# Altium schematic symbol library Edge_logic_analyzer.SchLib: 73 symbols (part 2 of 2)
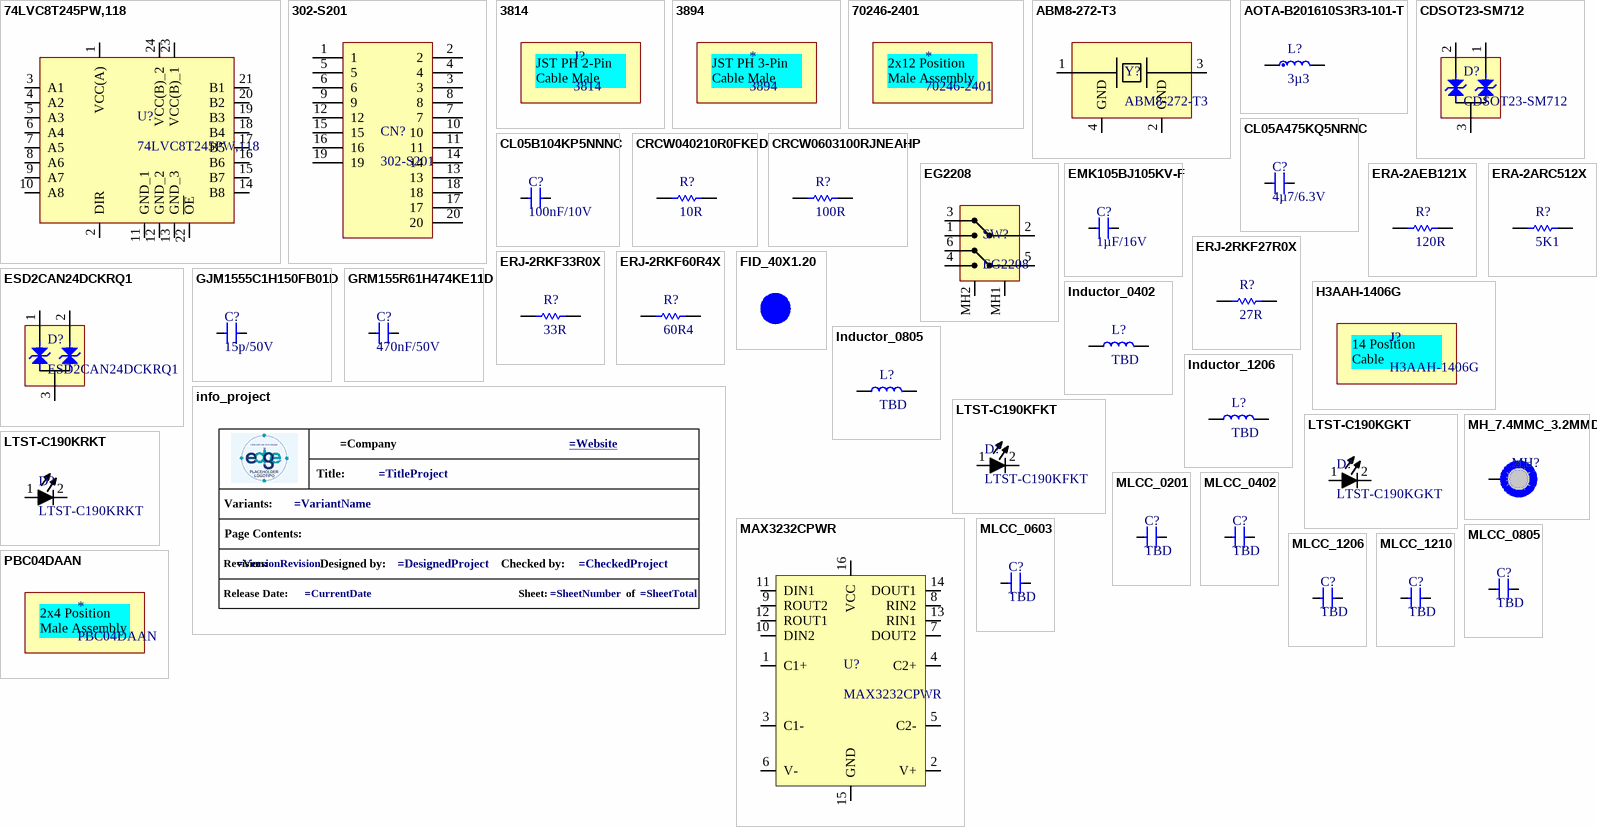
[diagram p2: symbols 74LVC8T245PW,118 to PBC04DAAN]

## MAX3232CPWR
designator U?
IC - Transceiver Full-Duplex RS232 2-Channel, Data Rate 250kbps 16-TSSOP.; Manufacturer 1: Texas Instruments; Number of Receivers: 2; Logic Function: Transceiver,Receiver; Number of Transceivers: 1; Simplex/Duplex: Full Duplex; Receiver Hysteresis: 300mV; Supply Current: 1mA; Max Supply Voltage: 5.5V; Min Supply Voltage: 3V; Operating Supply Voltage: 5V; Supply Type: Single; Description 1: 3- to 5.5-V dual channel 250kbps RS-232 line driver/receiver with +/-15-kV ESD protection 16-TSSOP 0 to 70; Category 1: RS-232 / RS-422 / RS-485 Interface ICs; .Mounting: SMT; Mounting Technology: Surface Mount; Case/Package: TSSOP; Pins: 16; Weight: 0.002183oz; Min Operating Temperature: -40°C; Max Operating Temperature: 85°C; Package Quantity: 2000; Packaging: Tape and Reel; Data Rate: 250Kbps; Number of Transmitters: 2; Number of Drivers: 2; Series: -; Number of Channels: 2; Operating Supply Current: 1mA; Termination: SMD/SMT; Length: 5mm; Width: 4.4mm; Height: 1mm; Radiation Hardening: No; Lead Free: Lead Free; RoHS Compliant: Yes; Reach SVHC Compliant: No; ComponentLink1URL: https://datasheet.ciiva.com/22694/1823586-22694378.pdf?src-supplier=Element14; ComponentLink1Description: https://datasheet.ciiva.com/22694/1823586-22694378.pdf?src-supplier=Element14; ComponentLink2URL: https://datasheet.ciiva.com/8064/1823586-8064567.pdf?src-supplier=Element14; ComponentLink2Description: https://datasheet.ciiva.com/8064/1823586-8064567.pdf?src-supplier=Element14; ComponentLink3URL: https://datasheet.ciiva.com/46394/1882754-46394522.pdf?src-supplier=Element14; ComponentLink3Description: https://datasheet.ciiva.com/46394/1882754-46394522.pdf?src-supplier=Element14; ComponentLink4URL: https://datasheet.ciiva.com/46397/1882754-46397997.pdf?src-supplier=Element14; ComponentLink4Description: https://datasheet.ciiva.com/46397/1882754-46397997.pdf?src-supplier=Element14; ComponentLink5URL: https://datasheet.ciiva.com/1702/max3232-1702785.pdf?src-supplier=Digi-Key; ComponentLink5Description: https://datasheet.ciiva.com/1702/max3232-1702785.pdf?src-supplier=Digi-Key; ComponentLink6URL: https://datasheet.ciiva.com/1702/max3232-1702784.pdf?src-supplier=Digi-Key; ComponentLink6Description: https://datasheet.ciiva.com/1702/max3232-1702784.pdf?src-supplier=Digi-Key; ComponentLink7URL: https://datasheet.ciiva.com/1702/max3232-1702786.pdf?src-supplier=Digi-Key; ComponentLink7Description: https://datasheet.ciiva.com/1702/max3232-1702786.pdf?src-supplier=Digi-Key; Manufacturer Part Number 1: MAX3232CPWR; RoHS 1: Yes; Stock 1: 15299; Pricing 1: 1=0,99, 10=0,849, 50=0,849, 100=0,652, 1000=0,454, 10000=0,387 (USD); Manufacturer 2: Texas Instruments; Manufacturer Part Number 2: MAX3232IPWR; Manufacturer 3: Texas Instruments; Manufacturer Part Number 3: MAX3232ECPWR; .PCBChecked: *; .SCHChecked: *; Supplier 1: Digikey; Supplier Part Number 1: 296-13096-1-ND
footprint MAX3232CPWR (TSOP, 16-Leads, Body 5,00x4,40mm, Pitch 0,65mm, IPC Medium Density)
pins: 1 C1+, 2 V+, 3 C1-, 4 C2+, 5 C2-, 6 V-, 7 DOUT2, 8 RIN2, 9 ROUT2, 10 DIN2, 11 DIN1, 12 ROUT1, 13 RIN1, 14 DOUT1, 15 GND, 16 VCC

## MH_7.4MMC_3.2MMD
designator MH?  (value not drawn)  (no BOM)
Mounting Hole 7.4mm Diameter 3.2mm Drill
footprint MH_7.4MMC_3.2MMD
pins: 1

## MLCC_0201
designator C?, comment TBD
MLCC - TBD 0201
footprint C0201
pins: 1, 2

## MLCC_0402
designator C?, comment TBD
MLCC - TBD 0402
footprint C0402
pins: 1, 2

## MLCC_0603
designator C?, comment TBD
MLCC - TBD 0603
footprint C0603
pins: 1, 2

## MLCC_0805
designator C?, comment TBD
MLCC - TBD 0805
footprint C0805
pins: 1, 2

## MLCC_1206
designator C?, comment TBD
MLCC - TBD 1206
footprint C1206 (Chip Capacitor, 2-Leads, Body 3.20x1.60mm, IPC Medium Density)
pins: 1, 2

## MLCC_1210
designator C?, comment TBD
MLCC - TBD 1210
footprint C1210
pins: 1, 2

## PBC04DAAN
designator *  (mechanical)
ASSEMBLY - Conn Unshrouded Header HDR 8 POS 2.54mm Solder ST Top Entry Thru-Hole; Manufacturer 1: Sullins; Connector Type: Male Pin; Contact Resistance: 30mΩ; Current Rating: 3A; Gender: Male; Insulation Resistance: 5GΩ; Number of Contacts: 8; Plating Thickness: 254nm; Supplier: DigiKey; Supplier Part Number: S2011E-04-ND; Manufacturer Part Number 1: PBC04DAAN; RoHS: Compliant; Category: Headers and Wire Housings; Stock: 15250; Pricing: 1=0,69, 10=0,583, 100=0,4955, 500=0,4422, 1000=0,42108, 5000=0,37588, 10000=0,36514 (USD); Color: Black; Contact Gender: Male; Contact Material: Gold, Nickel; Contact Mating Length: 5.842mm; Contact Plating: Gold; Height: 8.71mm; Housing Color: Black; Housing Material: Plastic; Lead Free: Lead Free; Length: 10.2mm; Lifecycle Status: Production; Max Operating Temperature: 125°C; Min Operating Temperature: -65°C; Mounting Technology: Through Hole; Pins: 8; Number of Positions: 8; Number of Rows: 2; Packaging: Bulk; Pitch: 2.54mm; REACH SVHC: Yes; Row Spacing: 2.54mm; Terminal Pitch: 2.54mm; Termination: Solder; Width: 5.08mm; ComponentLink1URL: https://datasheet.octopart.com:443/PBC04DAAN-Sullins-datasheet-137916713.pdf?src-supplier=IHS; ComponentLink1Description: https://datasheet.octopart.com:443/PBC04DAAN-Sullins-datasheet-137916713.pdf?src-supplier=IHS; ComponentLink2URL: https://datasheet.octopart.com:443/PBC04DAAN-Sullins-datasheet-102002651.pdf?src-supplier=Upverter; ComponentLink2Description: https://datasheet.octopart.com:443/PBC04DAAN-Sullins-datasheet-102002651.pdf?src-supplier=Upverter; ComponentLink3URL: https://datasheet.octopart.com:443/PBC04DAAN-Sullins-datasheet-41399297.pdf?src-supplier=Future+Electronics; ComponentLink3Description: https://datasheet.octopart.com:443/PBC04DAAN-Sullins-datasheet-41399297.pdf?src-supplier=Future+Electronics; ComponentLink4URL: https://datasheet.octopart.com:443/PBC04DAAN-Sullins-datasheet-8324602.pdf?src-supplier=Future+Electronics; ComponentLink4Description: https://datasheet.octopart.com:443/PBC04DAAN-Sullins-datasheet-8324602.pdf?src-supplier=Future+Electronics; ComponentLink5URL: https://datasheet.octopart.com:443/PBC04DAAN-Sullins-datasheet-118405.pdf?src-supplier=DigiKey; ComponentLink5Description: https://datasheet.octopart.com:443/PBC04DAAN-Sullins-datasheet-118405.pdf?src-supplier=DigiKey; .SCHChecked: *
text: 2x4 Position Male Assembly

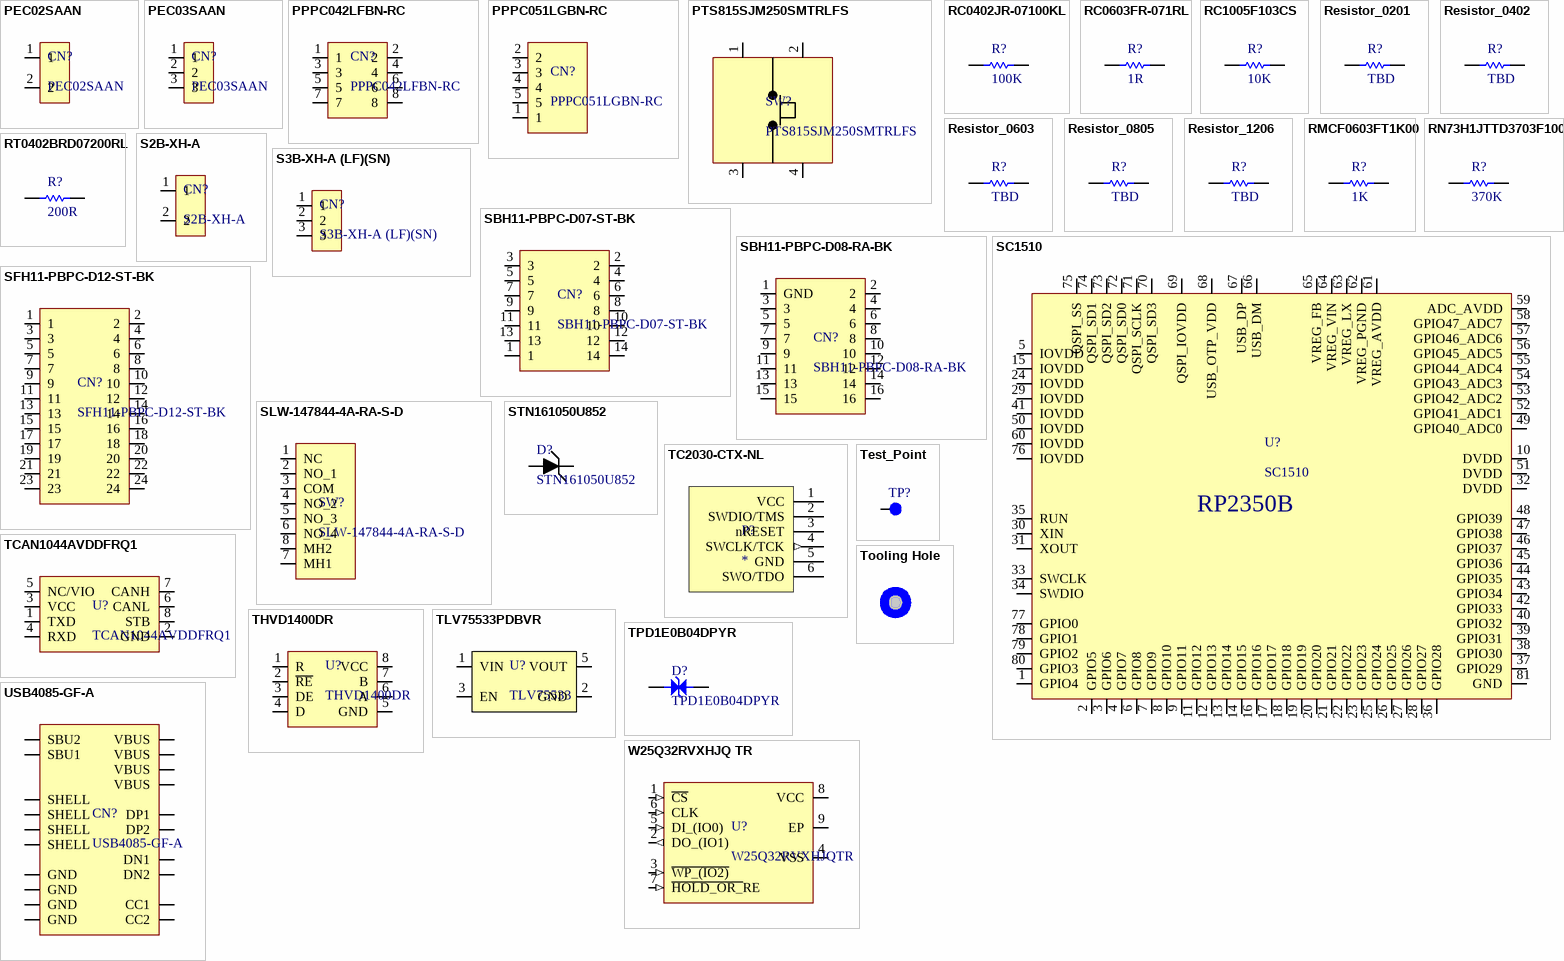
[diagram p1: symbols PEC02SAAN to W25Q32RVXHJQ TR]

## PEC02SAAN
designator CN?
CONN - 2 Position Connector Header Through Hole 0.100" (2.54mm); Manufacturer 1: Sullins; .Mounting: PTH; Datasheet Link: https://s3.amazonaws.com/catalogspreads-pdf/PAGE112-113%20.100%20MALE%20HDR.pdf; Height: 8.38mm; Manufacturer Part Number 1: PEC02SAAN; .PCBChecked: *; .SCHChecked: *
footprint PEC02SAAN
pins: 1, 2

## PEC03SAAN
designator CN?
CONN - 3 Position connector Header Through Hole  0.100" (2.54mm); Manufacturer 1: Sullins; .Mounting: PTH; Datasheet Link: https://s3.amazonaws.com/catalogspreads-pdf/PAGE112-113%20.100%20MALE%20HDR.pdf; Height: 8.38mm; Manufacturer Part Number 1: PEC03SAAN; .PCBChecked: *; .SCHChecked: *
footprint PEC03SAAN
pins: 1, 2, 3

## PPPC042LFBN-RC
designator CN?
CONN - 8 Position Header Connector 0.100" (2.54mm) Through Hole Gold; Manufacturer 1: Sullins; .Mounting: PTH; Datasheet Link: https://drawings-pdf.s3.amazonaws.com/10492.pdf; Height: 8.7mm; Manufacturer Part Number 1: PPPC042LFBN-RC; .SCHChecked: *; .PCBChecked: *
footprint XPYC042LFBN-RC
pins: 1, 2, 3, 4, 5, 6, 7, 8

## PPPC051LGBN-RC
designator CN?
CONN - 5 Position Header Connector 0.100" (2.54mm) Through Hole, Right Angle Gold; Manufacturer 1: Sullins; .Mounting: PTH; Datasheet Link: https://media.digikey.com/pdf/Data%20Sheets/Sullins%20PDFs/Female_Headers.100_DS.pdf; Height: 2.74mm; Manufacturer Part Number 1: PPPC051LGBN-RC; .SCHChecked: *; .PCBChecked: *
footprint PPPC051LGBN-RC
pins: 1, 2, 3, 4, 5

## PTS815SJM250SMTRLFS
designator SW?
SWITCH - Tactile Switch SPST-NO Top Actuated Surface Mount; Manufacturer 1: ITT C&K; .Mounting: SMT; Supplier: Digikey; Supplier Part Number: CKN12215-1-ND; Manufacturer Part Number 1: PTS815SJM250SMTRLFS; RoHS: Yes; Category: Tactile Switches; Stock: 10550; Pricing: 1=0,22, 10=0,191, 25=0,1788, 100=0,1606, 250=0,14892, 500=0,14052, 1000=0,13263 (USD); ComponentLink1URL: https://datasheet.octopart.com/PTS815-SJM-250-SMTR-LFS-C%26K-Components-datasheet-175421037.pdf?src-supplier=Element14; ComponentLink1Description: https://datasheet.octopart.com/PTS815-SJM-250-SMTR-LFS-C%26K-Components-datasheet-175421037.pdf?src-supplier=Element14; ComponentLink2URL: https://dznh3ojzb2azq.cloudfront.net/products/Tactile/PTS815/documents/datasheet.pdf?src-supplier=Digikey; ComponentLink2Description: https://dznh3ojzb2azq.cloudfront.net/products/Tactile/PTS815/documents/datasheet.pdf?src-supplier=Digikey; ComponentLink3URL: https://datasheet.octopart.com/PTS815-SJM-250-SMTR-LFS-C%26K-Components-datasheet-175421037.pdf?src-supplier=Farnell; ComponentLink3Description: https://datasheet.octopart.com/PTS815-SJM-250-SMTR-LFS-C%26K-Components-datasheet-175421037.pdf?src-supplier=Farnell; ComponentLink4URL: https://datasheet.octopart.com/PTS815SJM250SMTRLFS-C%26K-Components-datasheet-166147782.pdf?src-supplier=TME; ComponentLink4Description: https://datasheet.octopart.com/PTS815SJM250SMTRLFS-C%26K-Components-datasheet-166147782.pdf?src-supplier=TME; .SCHChecked: *; .PCBChecked: *
footprint PTS526SK15SMTR2_LFS
pins: 1 COM_1, 2 COM_2, 3 NO_1, 4 NO_2

## RC0402JR-07100KL
designator R?, comment 100K
RES - 100K  0.0625W 0402 5% 50V Fixed Resistor; Manufacturer 1: Yageo; Manufacturer Part Number 1: RC0402JR-07100KL; Additional Feature: LASER TRIMMABLE; Power: 62.5mW; Rated Temperature: 70°C; Value: 100kR; Temperature Coefficient (ppm/Cel): 100; Package Height: 0.35mm; Package Length: 1mm; Package Width: 0.5mm; .Mounting: SMT; Supplier: Digikey; Supplier Part Number: 311-100KJRCT-ND; RoHS: Yes; Category: Chip SMD Resistors; Stock: 5514863; Pricing: 1=0,1, 10=0,006, 50=0,0056, 100=0,0051, 500=0,00408, 1000=0,00284 (USD); Mounting Technology: Surface Mount; Pins: 2; Package Shape: Rectangular; Case/Package: 0402; Terminal Finish: Nickel; Min Operating Temperature: -55°C; Max Operating Temperature: 155°C; Tolerance: 5%; JESD-609 Code: e3; Resistor Type: FIXED RESISTOR; Construction: Chip; Packaging: Tape and Reel; Technology: METAL GLAZE/THICK FILM; Termination: Wraparound; Working Voltage: 50V; Reach SVHC Compliant: Yes; RoHS Compliant: Yes; ComponentLink1URL: https://datasheet.ciiva.com:443/pdfs/VipMasterIC/IC/YAGO/YAGO-S-A0008145938/YAGO-S-A0008145938-1.pdf?src-supplier=IHS+Markit; ComponentLink1Description: https://datasheet.ciiva.com:443/pdfs/VipMasterIC/IC/YAGO/YAGO-S-A0008145938/YAGO-S-A0008145938-1.pdf?src-supplier=IHS+Markit; ComponentLink2URL: https://datasheet.ciiva.com/2491/pyu-r-int-thick-7-2491207.pdf?src-supplier=Digikey; ComponentLink2Description: https://datasheet.ciiva.com/2491/pyu-r-int-thick-7-2491207.pdf?src-supplier=Digikey; ComponentLink3URL: https://datasheet.ciiva.com/2491/pyu-r-int-thick-7-2491208.pdf?src-supplier=Digikey; ComponentLink3Description: https://datasheet.ciiva.com/2491/pyu-r-int-thick-7-2491208.pdf?src-supplier=Digikey; ComponentLink4URL: https://datasheet.ciiva.com/2491/pyu-r-int-thick-7-2491209.pdf?src-supplier=Digikey; ComponentLink4Description: https://datasheet.ciiva.com/2491/pyu-r-int-thick-7-2491209.pdf?src-supplier=Digikey; ComponentLink5URL: https://datasheet.ciiva.com/17052/pyu-rc0402-51-rohs-l-6-r-17052137.pdf?src-supplier=Future+Electronics; ComponentLink5Description: https://datasheet.ciiva.com/17052/pyu-rc0402-51-rohs-l-6-r-17052137.pdf?src-supplier=Future+Electronics; ComponentLink6URL: https://datasheet.ciiva.com/12668/pyu-rc0402-51-rohs-l-6-r-12668218.pdf?src-supplier=Mouser; ComponentLink6Description: https://datasheet.ciiva.com/12668/pyu-rc0402-51-rohs-l-6-r-12668218.pdf?src-supplier=Mouser; ComponentLink7URL: https://datasheet.ciiva.com/46394/1018594-46394941.pdf?src-supplier=Element14; ComponentLink7Description: https://datasheet.ciiva.com/46394/1018594-46394941.pdf?src-supplier=Element14; ComponentLink8URL: https://datasheet.ciiva.com/7850/1018594-7850133.pdf?src-supplier=Element14; ComponentLink8Description: https://datasheet.ciiva.com/7850/1018594-7850133.pdf?src-supplier=Element14; .PCBChecked: *; .SCHChecked: *
footprint R0402
pins: 1, 2

## RC0603FR-071RL
designator R?, comment 1R
RES - 1R 1/10W  0603 ±1%; Manufacturer 1: Yageo; Manufacturer Part Number 1: RC0603FR-071RL; Additional Feature: LASER TRIMMABLE; Power: 100mW; Rated Temperature: 70°C; Working Voltage: 75V; Temperature Coefficient (ppm/Cel): 200; Package Height: 0.45mm; Package Length: 1.6mm; Package Width: 0.8mm; .Mounting: SMT; Supplier: Digikey; Supplier Part Number: 311-1.00HRCT-ND; RoHS: Yes; Category: Chip SMD Resistors; Stock: 71794; Pricing: 1=0,11, 10=0,012, 100=0,0112, 1000=0,0102 (USD); Mounting Technology: Surface Mount; Pins: 2; Package Shape: Rectangular; Case/Package: 0603; Terminal Finish: Nickel; Min Operating Temperature: -55°C; Max Operating Temperature: 155°C; Tolerance: 1%; JESD-609 Code: e3; Resistor Type: FIXED RESISTOR; Construction: Chip; Packaging: Tape and Reel; Value: 1R; Technology: METAL GLAZE/THICK FILM; Termination: Wraparound; Reach SVHC Compliant: Yes; RoHS Compliant: Yes; ComponentLink1URL: https://datasheet.ciiva.com:443/pdfs/VipMasterIC/IC/YAGO/YAGO-S-A0008145938/YAGO-S-A0008145938-1.pdf?src-supplier=IHS+Markit; ComponentLink1Description: https://datasheet.ciiva.com:443/pdfs/VipMasterIC/IC/YAGO/YAGO-S-A0008145938/YAGO-S-A0008145938-1.pdf?src-supplier=IHS+Markit; ComponentLink2URL: https://datasheet.ciiva.com/11808/0900766b80f96399-11808162.pdf?src-supplier=Rs; ComponentLink2Description: https://datasheet.ciiva.com/11808/0900766b80f96399-11808162.pdf?src-supplier=Rs; ComponentLink3URL: https://datasheet.ciiva.com/6547/pyu-r-int-thick-7-6547270.pdf?src-supplier=Digikey; ComponentLink3Description: https://datasheet.ciiva.com/6547/pyu-r-int-thick-7-6547270.pdf?src-supplier=Digikey; ComponentLink4URL: https://datasheet.ciiva.com/6547/pyu-r-int-thick-7-6547271.pdf?src-supplier=Digikey; ComponentLink4Description: https://datasheet.ciiva.com/6547/pyu-r-int-thick-7-6547271.pdf?src-supplier=Digikey; ComponentLink5URL: https://datasheet.ciiva.com/7746/1738695-7746296.pdf?src-supplier=Element14; ComponentLink5Description: https://datasheet.ciiva.com/7746/1738695-7746296.pdf?src-supplier=Element14; ComponentLink6URL: https://datasheet.ciiva.com/7746/1738695-7746297.pdf?src-supplier=Element14; ComponentLink6Description: https://datasheet.ciiva.com/7746/1738695-7746297.pdf?src-supplier=Element14; ComponentLink7URL: https://datasheet.ciiva.com/6547/pyu-r-int-thick-7-6547269.pdf?src-supplier=Digikey; ComponentLink7Description: https://datasheet.ciiva.com/6547/pyu-r-int-thick-7-6547269.pdf?src-supplier=Digikey; .PCBChecked: *; .SCHChecked: *
footprint R0603
pins: 1, 2

## RC1005F103CS
designator R?, comment 10K
RES - 10K 1/16W 0402 ±1% Chip Resistor; Manufacturer 1: Samsung; Manufacturer Part Number 1: RC1005F103CS; Power: 60mW; Value: 10kR; Working Voltage: 50V; Temperature Coefficient (ppm/Cel): 100; Package Height: 0.35mm; Package Length: 1mm; Package Width: 0.5mm; .Mounting: SMT; Supplier: Digikey; Supplier Part Number: 1276-3431-1-ND; RoHS: Yes; Category: Chip SMD Resistors; Stock: 10935408; Pricing: 1=0,1, 10=0,039, 100=0,0201, 1000=0,01175, 2500=0,0099, 5000=0,00882 (USD); Mounting Technology: Surface Mount; Pins: 2; Package Shape: Rectangular; Case/Package: 0402; Terminal Finish: Nickel; Min Operating Temperature: -55°C; Max Operating Temperature: 125°C; Tolerance: 1%; JESD-609 Code: e3; Resistor Type: FIXED RESISTOR; Construction: Chip; Packaging: Tape and Reel; Technology: METAL GLAZE/THICK FILM; Reach SVHC Compliant: Yes; RoHS Compliant: Yes; ComponentLink1URL: https://datasheet.ciiva.com:443/pdfs/VipMasterIC/IC/SEMS/SEMS-S-A0001326806/SEMS-S-A0001326806-1.pdf?src-supplier=IHS+Markit; ComponentLink1Description: https://datasheet.ciiva.com:443/pdfs/VipMasterIC/IC/SEMS/SEMS-S-A0001326806/SEMS-S-A0001326806-1.pdf?src-supplier=IHS+Markit; ComponentLink2URL: https://datasheet.ciiva.com/15196/getdatasheetpartid-504789-15196214.pdf?src-supplier=Verical; ComponentLink2Description: https://datasheet.ciiva.com/15196/getdatasheetpartid-504789-15196214.pdf?src-supplier=Verical; ComponentLink3URL: https://datasheet.ciiva.com/16481/rcseries-16481007.pdf?src-supplier=Future+Electronics; ComponentLink3Description: https://datasheet.ciiva.com/16481/rcseries-16481007.pdf?src-supplier=Future+Electronics; .PCBChecked: *; .SCHChecked: *
footprint R0402
pins: 1, 2

## Resistor_0201
designator R?, comment TBD
Resistor - TBD 0201
footprint R0201
pins: 1, 2

## Resistor_0402
designator R?, comment TBD
Resistor - TBD 0402
footprint R0402
pins: 1, 2

## Resistor_0603
designator R?, comment TBD
Resistor - TBD 0603
footprint R0603
pins: 1, 2

## Resistor_0805
designator R?, comment TBD
Resistor - TBD 0805
footprint R0805
pins: 1, 2

## Resistor_1206
designator R?, comment TBD
Resistor - TBD 1206
footprint R1206
pins: 1, 2

## RMCF0603FT1K00
designator R?, comment 1K
RES - 1K 1/10W 0603  ±1%; Manufacturer 1: Stackpole Electronics; Manufacturer Part Number 1: RMCF0603FT1K00; Power: 100mW; Rated Temperature: 70°C; Value: 1kR; Working Voltage: 75V; Temperature Coefficient (ppm/Cel): 100; Package Height: 0.45mm; Package Length: 1.55mm; Package Width: 0.8mm; Reference Standard: AEC-Q200; .Mounting: SMT; Supplier: Digikey; Supplier Part Number: RMCF0603FT1K00CT-ND; RoHS: Yes; Category: Chip SMD Resistors; Stock: 2369156; Pricing: 1=0,1, 10=0,02, 100=0,0091, 1000=0,0048, 2500=0,00386 (USD); Mounting Technology: Surface Mount; Pins: 2; Package Shape: Rectangular; Case/Package: 0603; Terminal Finish: Nickel; Min Operating Temperature: -55°C; Max Operating Temperature: 155°C; Tolerance: 1%; JESD-609 Code: e3; Resistor Type: FIXED RESISTOR; Construction: Rectangular; Packaging: Tape and Reel; Technology: METAL GLAZE/THICK FILM; Termination: Wraparound; Reach SVHC Compliant: Yes; RoHS Compliant: Yes; ComponentLink1URL: https://datasheet.ciiva.com:443/pdfs/VipMasterIC/IC/SEIE/SEIE-S-A0009541969/SEIE-S-A0009541969-1.pdf?src-supplier=IHS+Markit; ComponentLink1Description: https://datasheet.ciiva.com:443/pdfs/VipMasterIC/IC/SEIE/SEIE-S-A0009541969/SEIE-S-A0009541969-1.pdf?src-supplier=IHS+Markit; ComponentLink2URL: https://www.seielect.com/catalog/SEI-Packaging.pdf?src-supplier=Avnet; ComponentLink2Description: https://www.seielect.com/catalog/SEI-Packaging.pdf?src-supplier=Avnet; ComponentLink3URL: https://www.seielect.com/catalog/SEI-RMCF_RMCP.pdf?src-supplier=Avnet; ComponentLink3Description: https://www.seielect.com/catalog/SEI-RMCF_RMCP.pdf?src-supplier=Avnet; ComponentLink4URL: https://www.seielect.com/catalog/sei-rmcf_rmcp.pdf?src-supplier=Digikey; ComponentLink4Description: https://www.seielect.com/catalog/sei-rmcf_rmcp.pdf?src-supplier=Digikey; ComponentLink5URL: http://www.seielect.com/Catalog/SEI-rmc.pdf?src-supplier=Future+Electronics; ComponentLink5Description: http://www.seielect.com/Catalog/SEI-rmc.pdf?src-supplier=Future+Electronics; ComponentLink6URL: https://datasheet.octopart.com/RMCF0603FT1K00-Stackpole-Electronics-datasheet-11547379.pdf?src-supplier=Future+Electronics; ComponentLink6Description: https://datasheet.octopart.com/RMCF0603FT1K00-Stackpole-Electronics-datasheet-11547379.pdf?src-supplier=Future+Electronics; ComponentLink7URL: https://www.seielect.com/catalog/SEI-Packaging.pdf?src-supplier=Arrow+Electronics; ComponentLink7Description: https://www.seielect.com/catalog/SEI-Packaging.pdf?src-supplier=Arrow+Electronics; ComponentLink8URL: https://www.seielect.com/catalog/SEI-Packaging.pdf?src-supplier=Verical; ComponentLink8Description: https://www.seielect.com/catalog/SEI-Packaging.pdf?src-supplier=Verical; ComponentLink9URL: https://www.seielect.com/catalog/SEI-Packaging.pdf?src-supplier=Quest; ComponentLink9Description: https://www.seielect.com/catalog/SEI-Packaging.pdf?src-supplier=Quest; ComponentLink10URL: https://datasheet.octopart.com/RMCF0603FT1K00-Stackpole-Electronics-datasheet-155966809.pdf?src-supplier=Electro+Sonic; ComponentLink10Description: https://datasheet.octopart.com/RMCF0603FT1K00-Stackpole-Electronics-datasheet-155966809.pdf?src-supplier=Electro+Sonic; ComponentLink11URL: https://datasheet.octopart.com/RMCF0603FT1K00-Stackpole-Electronics-datasheet-155966809.pdf?src-supplier=Master+Electronics; ComponentLink11Description: https://datasheet.octopart.com/RMCF0603FT1K00-Stackpole-Electronics-datasheet-155966809.pdf?src-supplier=Master+Electronics; .PCBChecked: *; .SCHChecked: *
footprint R0603
pins: 1, 2

## RN73H1JTTD3703F100
designator R?, comment 370K
RES - 370K  0.1W  0603 1% 75V Fixed Resistor, Thin Film; Manufacturer 1: KOA Speer; Manufacturer Part Number 1: RN73H1JTTD3703F100; .Mounting: SMT; Supplier: Digikey; Supplier Part Number: 2019-RN73H1JTTD3703F100CT-ND; RoHS: Yes; Category: Chip SMD Resistors; Stock: 2861; Pricing: 1=0,12, 10=0,103, 50=0,0898, 100=0,0849, 500=0,07462, 1000=0,0708 (USD); ComponentLink1URL: https://datasheet.ciiva.com:443/pdfs/VipMasterIC/IC/KOAS/KOAS-S-A0009586296/KOAS-S-A0009586296-1.pdf?src-supplier=IHS+Markit; ComponentLink1Description: https://datasheet.ciiva.com:443/pdfs/VipMasterIC/IC/KOAS/KOAS-S-A0009586296/KOAS-S-A0009586296-1.pdf?src-supplier=IHS+Markit; ComponentLink2URL: http://www.mouser.com/ds/2/219/RN73H-12200.pdf?src-supplier=Mouser; ComponentLink2Description: http://www.mouser.com/ds/2/219/RN73H-12200.pdf?src-supplier=Mouser; .PCBChecked: *; .SCHChecked: *; Value: 370K
footprint R0603
pins: 1, 2

## RT0402BRD07200RL
designator R?, comment 200R
RES - 200R  0.0625W 0402 0.1%  50V Fixed Resistor, Thin Film; Manufacturer 1: Yageo; Manufacturer Part Number 1: RT0402BRD07200RL; Additional Feature: HIGH PRECISION; Power: 62.5mW; Rated Temperature: 70°C; Temperature Coefficient (ppm/Cel): 25; Package Height: 0.3mm; Package Length: 1mm; Package Width: 0.5mm; .Mounting: SMT; Supplier: Avnet; Supplier Part Number: 49AK4062; RoHS: Yes; Category: Chip SMD Resistors; Stock: 8493; Pricing: 1=0,198, 25=0,135, 100=0,098, 250=0,087, 500=0,077 (USD); Mounting Technology: Surface Mount; Pins: 2; Case/Package: 0402; Min Operating Temperature: -55°C; Max Operating Temperature: 155°C; Tolerance: 0.1%; Resistor Type: FIXED RESISTOR; Construction: Chip; Packaging: Tape and Reel; Value: 200R; Technology: THIN FILM; Termination: Wraparound; Working Voltage: 50V; Reach SVHC Compliant: Yes; RoHS Compliant: Yes; ComponentLink1URL: https://datasheet.ciiva.com:443/pdfs/VipMasterIC/IC/YAGO/YAGO-S-A0008510989/YAGO-S-A0008510989-1.pdf?src-supplier=IHS+Markit; ComponentLink1Description: https://datasheet.ciiva.com:443/pdfs/VipMasterIC/IC/YAGO/YAGO-S-A0008510989/YAGO-S-A0008510989-1.pdf?src-supplier=IHS+Markit; ComponentLink2URL: https://datasheet.ciiva.com/12705/pyu-rt-1-to-0-05-rohs-l-4-12705967.pdf?src-supplier=Mouser; ComponentLink2Description: https://datasheet.ciiva.com/12705/pyu-rt-1-to-0-05-rohs-l-4-12705967.pdf?src-supplier=Mouser; ComponentLink3URL: https://datasheet.ciiva.com/46635/pyu-rt-1-to-0-05-rohs-l-5-46635174.pdf?src-supplier=Digikey; ComponentLink3Description: https://datasheet.ciiva.com/46635/pyu-rt-1-to-0-05-rohs-l-5-46635174.pdf?src-supplier=Digikey; ComponentLink4URL: https://datasheet.ciiva.com/2582/pyu-rt-1-to-0-05-rohs-l-4-2582220.pdf?src-supplier=Digikey; ComponentLink4Description: https://datasheet.ciiva.com/2582/pyu-rt-1-to-0-05-rohs-l-4-2582220.pdf?src-supplier=Digikey; .SCHChecked: *; .PCBChecked: *
footprint R0402
pins: 1, 2

## S2B-XH-A
designator CN?
CONN - Connector Header Through Hole, Right Angle 2 position 0.098" (2.50mm); Manufacturer 1: JST (JAPAN SOLDERLESS TERMINALS); Manufacturer Part Number 1: S2B-XH-A-1(LF)(SN); .Mounting: PTH; Datasheet Link: http://www.jst-mfg.com/product/pdf/eng/eXH.pdf; Height: 6.1mm; Mouser Part Number: 306-S2BXHA1LFSN; Mouser Price/Stock: https://www.mouser.co.uk/ProductDetail/JST-Commercial/S2B-XH-A-1LFSN?qs=QpmGXVUTftHhNeC%252BPQWeTw%3D%3D; .PCBChecked: *; .SCHChecked: *
footprint S2B-XH-A
pins: 1, 2

## S3B-XH-A (LF)(SN)
designator CN?
CONN - Connector Header Through Hole, Right Angle 3 position 0.098" (2.50mm); Manufacturer 1: JST (JAPAN SOLDERLESS TERMINALS); .Mounting: PTH; Datasheet Link: http://www.farnell.com/datasheets/2057209.pdf; Height: 6.1mm; Manufacturer Part Number 1: S3B-XH-A; .SCHChecked: *; .PCBChecked: *
footprint SHDRRA3W64P0X250_1X3_990X1150X610P
pins: 1, 2, 3

## SBH11-PBPC-D07-ST-BK
designator CN?
CONN - Connector Header Through Hole 14 position 0.100" (2.54mm); Manufacturer 1: Sullins; .Mounting: PTH; Datasheet Link: https://drawings-pdf.s3.amazonaws.com/11091.pdf; Height: 9.1mm; Manufacturer Part Number 1: SBH11-PBPC-D07-ST-BK; .SCHChecked: *; .PCBChecked: *
footprint SBH11-PBPC-D07-ST-BK
pins: 1, 2, 3, 4, 5, 6, 7, 8, 9, 10, 11, 12, 13, 14

## SBH11-PBPC-D08-RA-BK
designator CN?
CONN - Connector Header Through Hole, Right Angle 16 position 0.100" (2.54mm); Manufacturer 1: Sullins; .Mounting: PTH; Datasheet Link: https://s3.amazonaws.com/catalogspreads-pdf/PAGE122%20.100%20SBH11%20SERIES%20MALE%20BOX%20HDR%20ST%20RA%20SMT.pdf; Height: 9.3mm; Manufacturer Part Number 1: SBH11-PBPC-D08-RA-BK; .PCBChecked: *; .SCHChecked: *
footprint SBH11-PBPC-D08-RA-BK
pins: 1 GND, 2, 3, 4, 5, 6, 7, 8, 9, 10, 11, 12, 13, 14, 15, 16

## SC1510
designator U?
IC - MCU - ARM Microcontrollers - MCU RP2350B 150MHz clock Dual Arm Cortex-M33 cores 520KB RAM 8KB on-chip QFN-80; Manufacturer 1: RASPBERRY-PI; .Mounting: SMT; Datasheet Link: https://datasheets.raspberrypi.com/rp2350/rp2350-datasheet.pdf; Height: 0.9mm; Manufacturer Part Number 1: SC1510; Mouser Part Number: 358-SC1510; Mouser Price/Stock: https://www.mouser.co.uk/ProductDetail/Raspberry-Pi/SC1510?qs=jcD%2FCkGBYePv%252BTwvNgU%2F3g%3D%3D; .SCHChecked: *; .PCBChecked: *
footprint SC1510 (IC - MCU - ARM Microcontrollers - MCU RP2350B 150MHz clock Dual Arm Cortex-M33 cores 520KB RAM 8KB on-chip QFN-80)
pins: 1 GPIO4, 2 GPIO5, 3 GPIO6, 4 GPIO7, 5 IOVDD, 6 GPIO8, 7 GPIO9, 8 GPIO10, 9 GPIO11, 10 DVDD, 11 GPIO12, 12 GPIO13, 13 GPIO14, 14 GPIO15, 15 IOVDD, 16 GPIO16, 17 GPIO17, 18 GPIO18, 19 GPIO19, 20 GPIO20, 21 GPIO21, 22 GPIO22, 23 GPIO23, 24 IOVDD, 25 GPIO24, 26 GPIO25, 27 GPIO26, 28 GPIO27, 29 IOVDD, 30 XIN, 31 XOUT, 32 DVDD, 33 SWCLK, 34 SWDIO, 35 RUN, 36 GPIO28, 37 GPIO29, 38 GPIO30, 39 GPIO31, 40 GPIO32, 41 IOVDD, 42 GPIO33, 43 GPIO34, 44 GPIO35, 45 GPIO36, 46 GPIO37, 47 GPIO38, 48 GPIO39, 49 GPIO40_ADC0, 50 IOVDD, 51 DVDD, 52 GPIO41_ADC1, 53 GPIO42_ADC2, 54 GPIO43_ADC3, 55 GPIO44_ADC4, 56 GPIO45_ADC5, 57 GPIO46_ADC6, 58 GPIO47_ADC7, 59 ADC_AVDD, 60 IOVDD, 61 VREG_AVDD, 62 VREG_PGND, 63 VREG_LX, 64 VREG_VIN, 65 VREG_FB, 66 USB_DM, 67 USB_DP, 68 USB_OTP_VDD, 69 QSPI_IOVDD, 70 QSPI_SD3, 71 QSPI_SCLK, 72 QSPI_SD0, 73 QSPI_SD2, 74 QSPI_SD1, 75 QSPI_SS, 76 IOVDD, 77 GPIO0, 78 GPIO1, 79 GPIO2, 80 GPIO3, 81 GND
text: RP2350B

## SFH11-PBPC-D12-ST-BK
designator CN?
CONN - Board Connector, 24 Contact(s), 2 Row(s), Female, Straight, 0.1 inch Pitch, Solder Terminal, Locking, Black Insulator; Manufacturer 1: Sullins; Connector Type: Header, Socket; Contact Resistance: 20mΩ; Current Rating: 3A; Insulation Resistance: 1GΩ; Number of Positions: 24; Pitch: 2.54mm; .Mounting: PTH; Supplier: DigiKey; Supplier Part Number: S9708-ND; Manufacturer Part Number 1: SFH11-PBPC-D12-ST-BK; RoHS: Compliant; Category: Card Edge Connectors; Stock: 2895; Pricing: 1=1,22, 10=1,04, 100=0,8838, 500=0,78884, 1000=0,75117, 5000=0,6877 (USD); Color: Black; Contact Gender: Female; Contact Plating: Gold; Lead Free: Lead Free; Lifecycle Status: Production; Max Operating Temperature: 105°C; Min Operating Temperature: -40°C; Mounting Technology: Through Hole; Pins: 24; Number of Rows: 2; REACH SVHC: Yes; Row Spacing: 2.54mm; Terminal Pitch: 2.54mm; Termination: Solder; ComponentLink1URL: https://datasheet.octopart.com:443/SFH11-PBPC-D12-ST-BK-Sullins-datasheet-138898436.pdf?src-supplier=IHS; ComponentLink1Description: https://datasheet.octopart.com:443/SFH11-PBPC-D12-ST-BK-Sullins-datasheet-138898436.pdf?src-supplier=IHS; ComponentLink2URL: https://datasheet.octopart.com:443/SFH11-PBPC-D12-ST-BK-Sullins-datasheet-41399318.pdf?src-supplier=Future+Electronics; ComponentLink2Description: https://datasheet.octopart.com:443/SFH11-PBPC-D12-ST-BK-Sullins-datasheet-41399318.pdf?src-supplier=Future+Electronics; ComponentLink3URL: https://datasheet.octopart.com:443/SFH11-PBPC-D12-ST-BK-Sullins-datasheet-12512855.pdf?src-supplier=Future+Electronics; ComponentLink3Description: https://datasheet.octopart.com:443/SFH11-PBPC-D12-ST-BK-Sullins-datasheet-12512855.pdf?src-supplier=Future+Electronics; .SCHChecked: *; .PCBChecked: *
footprint CONN_SFH11-PBPC-D12-ST-BK
pins: 1, 2, 3, 4, 5, 6, 7, 8, 9, 10, 11, 12, 13, 14, 15, 16, 17, 18, 19, 20, 21, 22, 23, 24

## SLW-147844-4A-RA-S-D
designator SW?
SWITCH - Slide Switch SP4T Through Hole, Right Angle; Manufacturer 1: Same Sky; .Mounting: PTH; Datasheet Link: https://www.sameskydevices.com/product/resource/slw-147844-4a-ra-s-d.pdf; Height: 5mm; Manufacturer Part Number 1: SLW-147844-4A-RA-S-D; Mouser Part Number: 179-SLW1478444ARASD; Mouser Price/Stock: https://www.mouser.co.uk/ProductDetail/Same-Sky/SLW-147844-4A-RA-S-D?qs=IKkN%2F947nfAwyC%2FZGCUEUg%3D%3D; Arrow Part Number: SLW-147844-4A-RA-S-D; Arrow Price/Stock: https://www.arrow.com/en/products/slw-147844-4a-ra-s-d/cui-devices?utm_currency=USD&region=nac; .PCBChecked: *; .SCHChecked: *
footprint SLW-147844-4A-RA-S-D
pins: 1 NC, 2 NO_1, 3 COM, 4 NO_2, 5 NO_3, 6 NO_4, 7 MH1, 8 MH2

## STN161050U852
designator D?
DIODE - TVS - 17V Clamp 110A (8/20µs) Ipp Tvs Diode Surface Mount DFN1610-2L; Manufacturer 1: Eaton Bussmann; .Mounting: SMT; Supplier: Digikey; Supplier Part Number: 283-STN161050U852CT-ND; Manufacturer Part Number 1: STN161050U852; RoHS: No; Category: TVS Diodes; Stock: 8977; Pricing: 1=0,36, 10=0,25, 100=0,133, 500=0,119, 1000=0,101 (USD); ComponentLink1URL: https://datasheet.octopart.com/STN161050U852-Cooper-Bussmann-datasheet-154846660.pdf?src-supplier=Sager+Electronics; ComponentLink1Description: https://datasheet.octopart.com/STN161050U852-Cooper-Bussmann-datasheet-154846660.pdf?src-supplier=Sager+Electronics; .PCBChecked: *; .SCHChecked: *
footprint STN161050U852
pins: 1, 2

## TC2030-CTX-NL
designator P?  (no BOM)
6 pin Tag-Connect; .SCHChecked: Alex Batista; .PCBChecked: Alex Batista
footprint TC2030-CTX-NL
pins: 1 VCC, 2 SWDIO/TMS, 3 nRESET, 4 SWCLK/TCK (out), 5 GND, 6 SWO/TDO

## TCAN1044AVDDFRQ1
designator U?
IC - Transceiver Half CANbus TSOT-23-8; Manufacturer 1: Texas Instruments; .Mounting: SMT; Datasheet Link: https://www.ti.com/lit/gpn/tcan1044av-q1; Height: 1.1mm; Manufacturer Part Number 1: TCAN1044AVDDFRQ1; Mouser Part Number: 595-TCAN1044AVDDFRQ1; Mouser Price/Stock: https://www.mouser.co.uk/ProductDetail/Texas-Instruments/TCAN1044AVDDFRQ1?qs=7D1LtPJG0i2h5Rps6Zy%2FQg%3D%3D; Arrow Part Number: TCAN1044AVDDFRQ1; Arrow Price/Stock: https://www.arrow.com/en/products/tcan1044avddfrq1/texas-instruments?utm_currency=USD&region=europe; .PCBChecked: *; .SCHChecked: *
footprint TCAN1044AVDDFRQ1
pins: 1 TXD, 2 GND, 3 VCC, 4 RXD, 5 NC/VIO, 6 CANL, 7 CANH, 8 STB

## Test_Point
designator TP?, comment TestPoint  (value not drawn)  (no BOM)
MECH - Test Points
footprint Test Point
pins: 1

## THVD1400DR
designator U?
IC - Transceiver Half RS422, RS485 8-SOIC; Manufacturer 1: Texas Instruments; .Mounting: SMT; Datasheet Link: https://www.arrow.com/en/products/thvd1400dr/texas-instruments; Height: 1.75mm; Manufacturer Part Number 1: THVD1400DR; Mouser Part Number: 595-THVD1400DR; Mouser Price/Stock: https://www.mouser.co.uk/ProductDetail/Texas-Instruments/THVD1400DR?qs=eP2BKZSCXI7bzZdDjIHgHQ%3D%3D; Arrow Part Number: THVD1400DR; Arrow Price/Stock: https://www.arrow.com/en/products/thvd1400dr/texas-instruments?utm_currency=USD&region=nac; .PCBChecked: *; .SCHChecked: *
footprint THVD1400DR
pins: 1 R, 2 ~{RE}, 3 DE, 4 D, 5 GND, 6 A, 7 B, 8 VCC

## TLV75533PDBVR
designator U?, comment TLV75533
LDO - Fixed Regulator 3.3V 500mA SOT-23-5; Manufacturer 1: Texas Instruments; Manufacturer Part Number 1: TLV75533PDBVR; Regulator Type: FIXED POSITIVE SINGLE OUTPUT LDO REGULATOR; .Mounting: SMT; Supplier 1: Mouser; Supplier Part Number 1: 595-TLV75533PDBVR; RoHS: Yes; Category: Voltage Regulators - Linear; Stock: 22700; Pricing: 1=0,32, 10=0,218, 50=0,194, 100=0,167, 1000=0,14, 10000=0,123 (USD); Terminal Finish: Tin; JESD-609 Code: e3; Moisture Sensitivity Level: 1; Reach SVHC Compliant: Yes; RoHS Compliant: Yes; ComponentLink1URL: https://www.ti.com:443/lit/ds/symlink/tlv755p.pdf?src-supplier=IHS+Markit; ComponentLink1Description: https://www.ti.com:443/lit/ds/symlink/tlv755p.pdf?src-supplier=IHS+Markit; ComponentLink2URL: http://www.ti.com/lit/ds/symlink/tlv755p.pdf?src-supplier=Digikey; ComponentLink2Description: http://www.ti.com/lit/ds/symlink/tlv755p.pdf?src-supplier=Digikey; ComponentLink3URL: http://www.ti.com/general/docs/suppproductinfo.tsp?distId=10&amp;gotoUrl=http%3A%2F%2Fwww.ti.com%2Flit%2Fgpn%2Ftlv755p&src-supplier=Digikey; ComponentLink3Description: http://www.ti.com/general/docs/suppproductinfo.tsp?distId=10&amp;gotoUrl=http%3A%2F%2Fwww.ti.com%2Flit%2Fgpn%2Ftlv755p&src-supplier=Digikey; .PCBChecked: *; .SCHChecked: *
footprint TLV75533PDBVR (SOT23, 5-Leads, Body 2,85x2,80mm, Pitch 0,95mm, IPC Medium Density)
pins: 1 VIN, 2 GND, 3 EN, 5 VOUT

## Tooling Hole
designator TH?  (value not drawn)  (no BOM)
MECH - Tooling Holes
footprint Tooling Hole

## TPD1E0B04DPYR
designator D?
DIODE - TVS - 19V Clamp 1.7A (8/20µs) Ipp Tvs Diode Surface Mount 2-X1SON (1x.60); Manufacturer 1: Texas Instruments; Diode Type: TRANS VOLTAGE SUPPRESSOR; .Mounting: SMT; Supplier: Digikey; Supplier Part Number: 296-47864-1-ND; Manufacturer Part Number 1: TPD1E0B04DPYR; RoHS: Yes; Category: Integrated Circuits (ICs); Stock: 1526; Pricing: 1=0,32, 10=0,216, 100=0,095, 500=0,09, 1000=0,085, 2000=0,0835, 5000=0,082 (USD); Terminal Finish: Nickel; JESD-609 Code: e4; Moisture Sensitivity Level: 1; Reach SVHC Compliant: Yes; RoHS Compliant: Yes; ComponentLink1URL: https://www.ti.com:443/lit/ds/symlink/tpd1e0b04.pdf?src-supplier=IHS+Markit; ComponentLink1Description: https://www.ti.com:443/lit/ds/symlink/tpd1e0b04.pdf?src-supplier=IHS+Markit; ComponentLink2URL: http://www.ti.com/lit/ds/symlink/tpd1e0b04.pdf?src-supplier=Digikey; ComponentLink2Description: http://www.ti.com/lit/ds/symlink/tpd1e0b04.pdf?src-supplier=Digikey; ComponentLink3URL: http://www.ti.com/general/docs/suppproductinfo.tsp?distId=10&amp;gotoUrl=http%3A%2F%2Fwww.ti.com%2Flit%2Fgpn%2Ftpd1e0b04&src-supplier=Digikey; ComponentLink3Description: http://www.ti.com/general/docs/suppproductinfo.tsp?distId=10&amp;gotoUrl=http%3A%2F%2Fwww.ti.com%2Flit%2Fgpn%2Ftpd1e0b04&src-supplier=Digikey; .PCBChecked: *; .SCHChecked: *
footprint TPD1E0B04DPYR
pins: 1, 2

## USB4085-GF-A
designator CN?
CONN - CONN RCPT USB2.0 TYPE C 16+8POS; Manufacturer 1: GCT; MF: Global Connector Technology; .Mounting: PTH; SnapEDA_Link: https://www.snapeda.com/parts/USB4085-GF-A/Global+Connector+Technology/view-part/?ref=snap; Package: None; Value: *; Check_prices: https://www.snapeda.com/parts/USB4085-GF-A/Global+Connector+Technology/view-part/?ref=eda; Manufacturer Part Number 1: USB4085-GF-A; .PCBChecked: *; .SCHChecked: *; Supplier 1: DigiKey; Supplier Part Number 1: 2073-USB4085-GF-ACT-ND
footprint USB4085-GF-A
pins: A1 GND (power), A4 VBUS (power), A5 CC1 (io), A6 DP1 (io), A7 DN1 (io), A8 SBU1 (io), A9 VBUS (power), A12 GND (power), B1 GND (power), B4 VBUS (power), B5 CC2 (io), B6 DP2 (io), B7 DN2 (io), B8 SBU2 (io), B9 VBUS (power), B12 GND (power), S1 SHELL, S2 SHELL, S3 SHELL, S4 SHELL

## W25Q32RVXHJQ TR
designator U?, comment W25Q32RVXHJQTR
IC - FLASH - NOR Memory IC 32Mbit SPI - Quad I/O 133 MHz 8-XSON (2x3); Manufacturer 1: Winbond; .Mounting: SMT; Datasheet Link: https://www.winbond.com/hq/product/code-storage-flash-memory/serial-nor-flash/?__locale=ja&partNo=W25Q32RV; Height: 0.4mm; Manufacturer Part Number 1: W25Q32RVXHJQ TR; Mouser Part Number: 454-W25Q32RVXHJQTR; Mouser Price/Stock: https://www.mouser.co.uk/ProductDetail/Winbond/W25Q32RVXHJQ-TR?qs=mELouGlnn3dFwM4lg8JCig%3D%3D; Arrow Part Number: W25Q32RVXHJQ TR; Arrow Price/Stock: https://www.arrow.com/en/products/w25q32rvxhjq-tr/winbond-electronics?utm_currency=USD&region=nac; .PCBCheked: *; .SCHChecked: *
footprint W25Q32RVXHJQ_TR
pins: 1 ~{CS} (in), 2 DO_(IO1) (out), 3 ~{WP_(IO2)} (in), 4 VSS (power), 5 DI_(IO0) (in), 6 CLK (in), 7 ~{HOLD_OR_}RE (in), 8 VCC (power), 9 EP (power)